# EAGLE library part 0533981471 (library CONNECTORs)
Connector Header Surface Mount 14 position 0.049" (1.25mm)
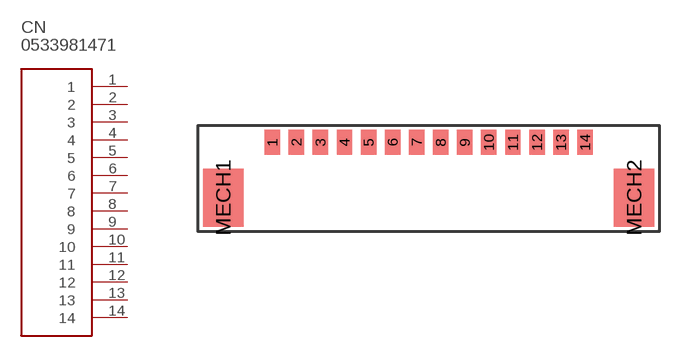
[diagram p61: symbol with the pads of 0533981471; footprint 0533981471]

Designator prefix CN

## 0533981471 (DIGIKEY: WM7618CT-ND; HEIGHT: 5; PRICE_PER: 1.17; VALUE: 14 PIN PICOBLADE)  [0533981471]
1  1
2  2
3  3
4  4
5  5
6  6
7  7
8  8
9  9
10  10
11  11
12  12
13  13
14  14

## Footprint 0533981471 (pad centres in mm)
smd 0.8 x 1.3: 1 -8.125,2.125; 2 -6.875,2.125; 3 -5.625,2.125; 4 -4.375,2.125; 5 -3.125,2.125; 6 -1.875,2.125; 7 -0.625,2.125; 8 0.625,2.125; 9 1.875,2.125; 10 3.125,2.125; 11 4.375,2.125; 12 5.625,2.125; 13 6.875,2.125; 14 8.125,2.125
smd 2.1 x 3: MECH1 -10.675,-0.75; MECH2 10.675,-0.75